# Altium schematic symbol library Transformer ETD34.SchLib: 1 symbol
Pins are listed as number, name and electrical type; pins without a type are passive.

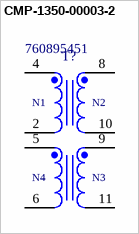
[diagram p0: symbol CMP-1350-00003-2]

## CMP-1350-00003-2
designator T?, comment 760895451
NexarPartId: 33936698; Frequency: 120kHz; Output Power: 150W; Shielding: Unshielded; Inductance: 600µH; Current Rating: 3.1A; DC Resistance (DCR): 260mΩ; Max Input Voltage: 400V; Output Voltage: 48V; Min Input Voltage: 360V; Max Operating Temperature: 125°C; Height: 26mm; Max Switching Frequency: 120kHz; RoHS: Compliant; Min Operating Temperature: -40°C; Width: 36mm; Mount: Through Hole; Length: 36mm; Output Current: 3.1A; Termination: Solder; Height - Seated (Max): 26mm; Power Rating: 150W
footprint WE-LLCR_ETD34 (Resonant Converter, body 36x36mm)
pins: 2, 4, 5, 6, 8, 9, 10, 11
text: N1; N2; N4; N3